# Altium schematic symbol library Transistor.SchLib: 72 symbols
Pins are listed as number, name and electrical type; pins without a type are passive.

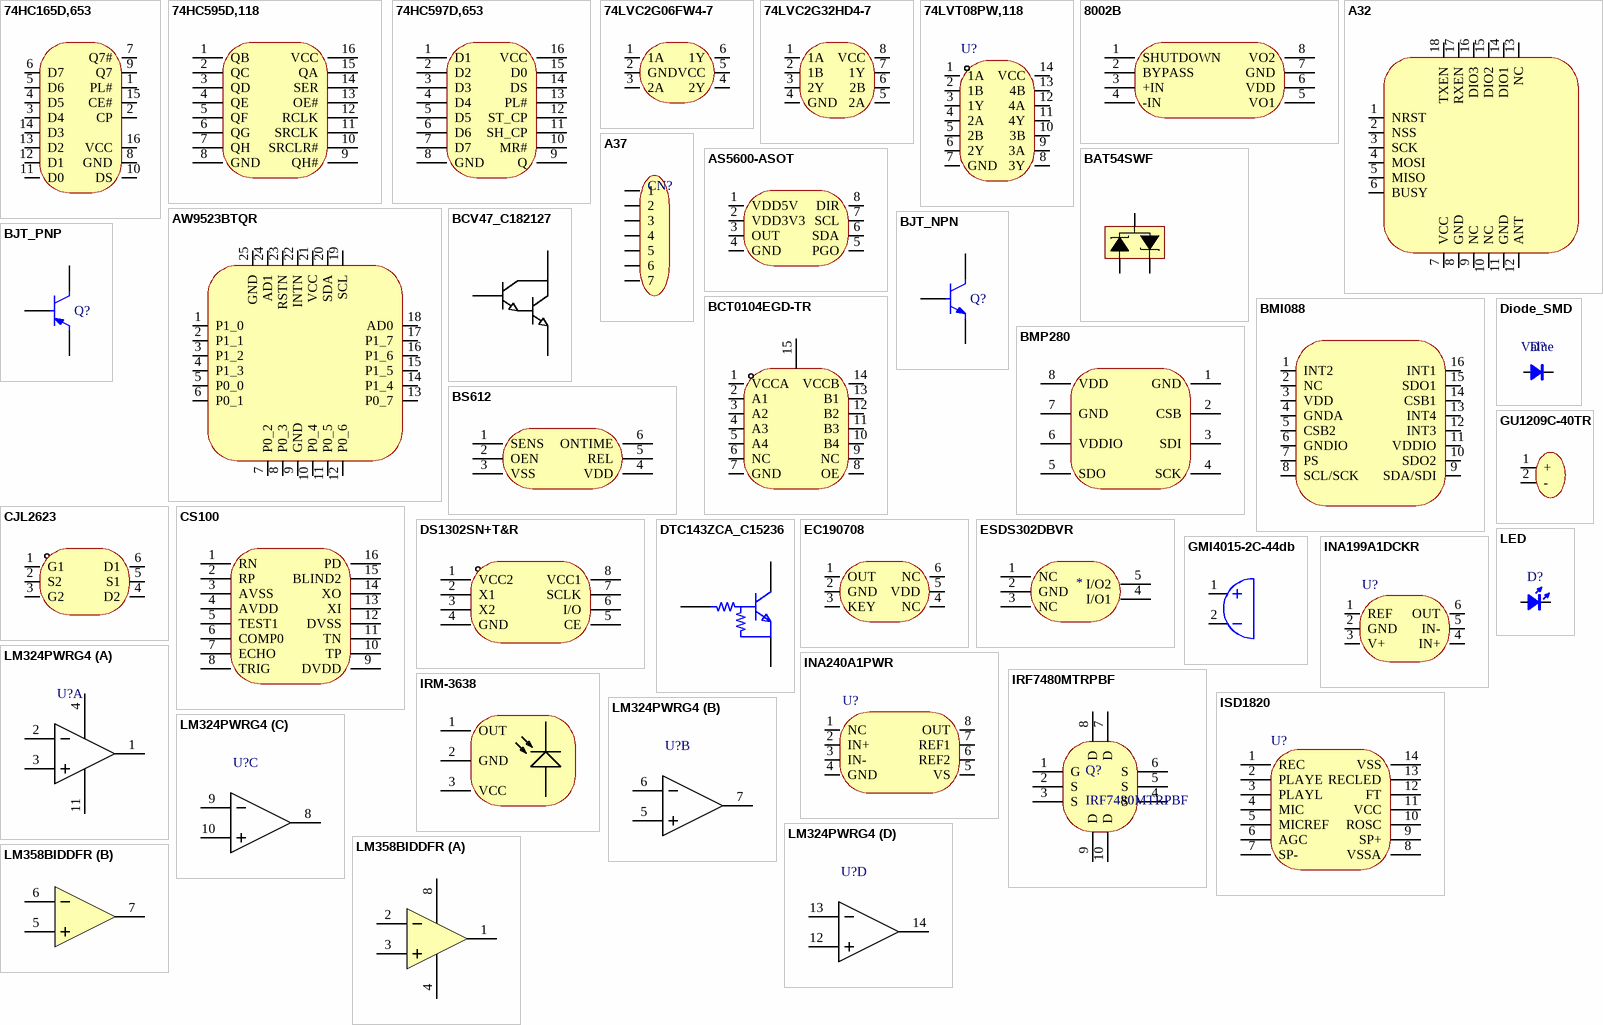
[diagram p0: symbols 74HC165D,653 to LM358BIDDFR]

## 74HC165D,653
designator U??  (value not drawn)
Manufacturer: Nexperia(安世); Add into BOM: yes; Function: 并行或串行至串行; Supply Voltage: 2V~6V; Number of Elements: 1; Number of Bits per Element: 8; Output Type: 补充型; Name: 74HC165D,653; Symbol: 74HC165D,653; Device: 74HC165D,653; LCSC Part Name: 补充型输出 并行或串行至串行移位寄存器; Supplier Part: C5613; Manufacturer Part: 74HC165D,653; Supplier Footprint: SOIC-16; JLCPCB Part Class: Extended Part; Datasheet: https://atta.szlcsc.com/upload/public/pdf/source/20160218/1457707760975.pdf; Supplier: LCSC; Convert to PCB: yes; Series: 74HC; Operating Temperature: -40℃~+125℃
footprint SOIC-16_L9.9-W3.9-P1.27-LS6.0-BL
pins: 1 PL#, 2 CP, 3 D4, 4 D5, 5 D6, 6 D7, 7 Q7#, 8 GND, 9 Q7, 10 DS, 11 D0, 12 D1, 13 D2, 14 D3, 15 CE#, 16 VCC

## 74HC595D,118
designator U??  (value not drawn)
Manufacturer: Nexperia(安世); Add into BOM: yes; Function: 串行至串行或并行; Supply Voltage: 2V~6V; Number of Elements: 1; Number of Bits per Element: 8; Output Type: 三态; Symbol: 74HC595D,118; Device: 74HC595D,118; LCSC Part Name: 三态输出 串行至串行或并行移位寄存器; Supplier Part: C5947; Manufacturer Part: 74HC595D,118; Supplier Footprint: SOIC-16; JLCPCB Part Class: Basic Part; Datasheet: https://atta.szlcsc.com/upload/public/pdf/source/20140108/1457706668762.pdf; Supplier: LCSC; Convert to PCB: yes; Series: 74HC; Operating Temperature: -40℃~+125℃
footprint SOIC-16_L9.9-W3.9-P1.27-LS6.0-BL
pins: 1 QB, 2 QC, 3 QD, 4 QE, 5 QF, 6 QG, 7 QH, 8 GND, 9 QH#, 10 SRCLR#, 11 SRCLK, 12 RCLK, 13 OE#, 14 SER, 15 QA, 16 VCC

## 74HC597D,653
designator U??  (value not drawn)
Manufacturer: Nexperia(安世); Add into BOM: yes; Function: 并行至串行; Supply Voltage: 2V~6V; Number of Elements: 1; Number of Bits per Element: 8; Output Type: 推挽式; Name: 74HC597D,653; Symbol: 74HC597D,653; Device: 74HC597D,653; LCSC Part Name: 推挽式输出 并行至串行移位寄存器; Supplier Part: C5950; Manufacturer Part: 74HC597D,653; Supplier Footprint: SOIC-16; JLCPCB Part Class: Extended Part; Datasheet: https://atta.szlcsc.com/upload/public/pdf/source/20120418/1457706475009.pdf; Supplier: LCSC; Convert to PCB: yes; Series: 74HC; Operating Temperature: -40℃~+125℃
footprint SOIC-16_L9.9-W3.9-P1.27-LS6.0-BL
pins: 1 D1, 2 D2, 3 D3, 4 D4, 5 D5, 6 D6, 7 D7, 8 GND, 9 Q, 10 MR#, 11 SH_CP, 12 ST_CP, 13 PL#, 14 DS, 15 D0, 16 VCC

## 74LVC2G06FW4-7
designator U??  (value not drawn)
双通道反相器; Manufacturer: DIODES(美台); Add into BOM: yes; Name: 74LVC2G06FW4-7; Symbol: 74LVC2G06FW4-7; Device: 74LVC2G06FW4-7; LCSC Part Name: 74LVC2G06FW4-7; Supplier Part: C526349; Manufacturer Part: 74LVC2G06FW4-7; Supplier Footprint: X2-DFN1010-6; JLCPCB Part Class: Extended Part; Datasheet: https://atta.szlcsc.com/upload/public/pdf/source/20200527/C526349_D718246197266BA0279DC21C28681CCE.pdf; Supplier: LCSC; Convert to PCB: yes
footprint X2-DFN1010-6_L1.0-W1.0-P0.35-BL
pins: 1 1A, 2 GND, 3 2A, 4 2Y, 5 VCC, 6 1Y

## 74LVC2G32HD4-7
designator ?  (value not drawn)
Designer: U?; Symbol: 74LVC2G32HD4-7; Device: 74LVC2G32HD4-7
footprint DFN-8_L2.0-W1.0-P0.50-BL
pins: 1 1A, 2 1B, 3 2Y, 4 GND, 5 2A, 6 2B, 7 1Y, 8 VCC

## 74LVT08PW,118
designator U?  (value not drawn)
逻辑电路的归属系列:74LVT;逻辑类型:与门;通道数:4;电源电压:2.7V~3.6V;灌电流(IOL):32mA;拉电流(IOH):20mA;最大传播延迟:3.4ns@3.3V,50pF;; Manufacturer: Nexperia(安世); Add into BOM: yes; Logic Gate Type: 与门; Number of Channels: 4; Sink Current: 32mA; Source Current: 20mA; High Level Range (VIH): 2V; Low Level Range (VIL): 0.8V; Name: 74LVT08PW,118; Symbol: 74LVT08PW,118; Device: 74LVT08PW,118; LCSC Part Name: 与门; Supplier Part: C548961; Manufacturer Part: 74LVT08PW,118; Supplier Footprint: TSSOP-14; JLCPCB Part Class: 扩展库; Datasheet: https://atta.szlcsc.com/upload/public/pdf/source/20200702/C548956_69376B719597F026608E69579AC07FDD.pdf; Supplier: LCSC; Convert to PCB: yes; Series: 74LVT; Supply Voltage: 2.7V~3.6V; Propagation Delay Time: 3.4ns@3.3V,50pF; Operating Temperature: -40℃~+85℃
footprint TSSOP-14_L5.0-W4.4-P0.65-LS6.4-BL
pins: 1 1A, 2 1B, 3 1Y, 4 2A, 5 2B, 6 2Y, 7 GND, 8 3Y, 9 3A, 10 3B, 11 4Y, 12 4A, 13 4B, 14 VCC

## 8002B
designator U??  (value not drawn)
Manufacturer: IDCHIP(英锐芯); Add into BOM: yes; Speaker Channels: 单声道; Supply Voltage: 2.2V~6.5V; Symbol: 8002B; Device: 8002B; LCSC Part Name: 8002B; Supplier Part: C329449; Manufacturer Part: 8002B; Supplier Footprint: SOP-8; JLCPCB Part Class: Extended Part; Datasheet: https://atta.szlcsc.com/upload/public/pdf/source/20181204/C329449_1D5C53D1DCD8BF215477F4C02E0F19C9.pdf; Supplier: LCSC; Convert to PCB: yes; Type of Power Amplifier: -; Output Power: -; Quiescent Current (Iq): -; Operating Temperature: -
footprint SOIC-8_L4.9-W3.9-P1.27-LS6.0-BL
pins: 1 SHUTDOWN, 2 BYPASS, 3 +IN, 4 -IN, 5 VO1, 6 VDD, 7 GND, 8 VO2

## A32
designator U??  (value not drawn)
泽耀科技SPI无线模块; Manufacturer: AWINIC(艾为); Name: AW9523BTQR; Add into BOM: yes; Interface: I²C; Number of I/O: 16; Interrupt Output: 有中断输出; Output Source current: 20mA; Clock Frequency: 400kHz; Supply Voltage: 2.4V~5.5V; Symbol: AW9523BTQR; Device: AW9523BTQR; LCSC Part Name: 呼吸灯驱动Breathing LED Driver; Supplier Part: C148077; Manufacturer Part: AW9523BTQR; Supplier Footprint: TQFN-24-EP(4x4); JLCPCB Part Class: Extended Part; Datasheet: https://atta.szlcsc.com/upload/public/pdf/source/20180202/C148077_15175644676151336003.pdf; Supplier: LCSC; Convert to PCB: yes; Output Type: -; Output Sink Current: 20mA; Operating Temperature: -40℃~+85℃
footprint S35-PAD-1
pins: 1 NRST, 2 NSS, 3 SCK, 4 MOSI, 5 MISO, 6 BUSY, 7 VCC, 8 GND, 9 NC, 10 NC, 11 GND, 12 ANT, 13 NC, 14 DIO1, 15 DIO2, 16 DIO3, 17 RXEN, 18 TXEN

## A37
designator CN?, comment WIFI模块  (value not drawn)
Manufacturer: CJT(长江连接器); Name: A2005HWV-4P; Add into BOM: yes; Number of Holes: 4; Pitch: 2mm; Holes Structure: 1x4P; Symbol: A2005HWV-4P; Device: A2005HWV-4P; LCSC Part Name: 2mm 1x4P 镀金; Supplier Part: C225282; Manufacturer Part: A2005HWV-4P; Supplier Footprint: 插件,P=2mm; JLCPCB Part Class: 扩展库; Datasheet: https://atta.szlcsc.com/upload/public/pdf/source/20180509/C225282_EA1BF45A07650844C9F1414BB7364766.pdf; Supplier: LCSC; Convert to PCB: yes; Number of Rows: 单排; Row Spacing: -; Mounting Type: 直插; Insulation Height: -; Contact Material: 磷青铜; Contact Plating: -
footprint A37-H2
pins: 1, 2, 3, 4, 5, 6, 7

## AS5600-ASOT
designator U??  (value not drawn)
Manufacturer: ams(艾迈斯半导体); Add into BOM: yes; Name: AS5600-ASOT; Symbol: AS5600-ASOT; Device: AS5600-ASOT; LCSC Part Name: AS5600-ASOT; Supplier Part: C499458; Manufacturer Part: AS5600-ASOT; Supplier Footprint: SOIC-8; JLCPCB Part Class: Extended Part; Datasheet: https://atta.szlcsc.com/upload/public/pdf/source/20200324/C499458_E1461AFB0CE1042DE5756821C534625C.pdf; Supplier: LCSC; Convert to PCB: yes
footprint SOIC-8_L4.9-W3.9-P1.27-LS6.0-BL
pins: 1 VDD5V, 2 VDD3V3, 3 OUT, 4 GND, 5 PGO, 6 SDA, 7 SCL, 8 DIR

## AW9523BTQR
designator U??  (value not drawn)
IIC总线的IO拓展芯片; Manufacturer: AWINIC(艾为); Add into BOM: yes; Interface: I²C; Number of I/O: 16; Interrupt Output: 有中断输出; Output Source current: 20mA; Clock Frequency: 400kHz; Supply Voltage: 2.4V~5.5V; Name: AW9523BTQR; Symbol: AW9523BTQR; Device: AW9523BTQR; LCSC Part Name: 呼吸灯驱动Breathing LED Driver; Supplier Part: C148077; Manufacturer Part: AW9523BTQR; Supplier Footprint: TQFN-24-EP(4x4); JLCPCB Part Class: Extended Part; Datasheet: https://atta.szlcsc.com/upload/public/pdf/source/20180202/C148077_15175644676151336003.pdf; Supplier: LCSC; Convert to PCB: yes; Output Type: -; Output Sink Current: 20mA; Operating Temperature: -40℃~+85℃
footprint QFN_24
pins: 1 P1_0, 2 P1_1, 3 P1_2, 4 P1_3, 5 P0_0, 6 P0_1, 7 P0_2, 8 P0_3, 9 GND, 10 P0_4, 11 P0_5, 12 P0_6, 13 P0_7, 14 P1_4, 15 P1_5, 16 P1_6, 17 P1_7, 18 AD0, 19 SCL, 20 SDA, 21 VCC, 22 INTN, 23 RSTN, 24 AD1, 25 GND

## BAT54SWF
designator D??
Symbol: BAT54SWF
footprint SOT23_3 (SOT23, 3-Leads, Body 3.1x3.0mm (max), Pitch 0.95mm, IPC Medium Density)
pins: 1 A, 2 K, 3

## BCT0104EGD-TR
designator U??  (value not drawn)
Manufacturer: BROADCHIP(广芯电子); Add into BOM: yes; Name: BCT0104EGD-TR; Symbol: BCT0104EGD-TR; Device: BCT0104EGD-TR; LCSC Part Name: BCT0104EGD-TR; Supplier Part: C2880273; Manufacturer Part: BCT0104EGD-TR; Supplier Footprint: QFN-14-EP(3.5x3.5); JLCPCB Part Class: Extended Part; Datasheet: https://atta.szlcsc.com/upload/public/pdf/source/20210825/A214B8F32C8CF87452F3EA05835C2A3D.pdf; Supplier: LCSC; Convert to PCB: yes
footprint QFN-14_L3.5-W3.5-P0.50-TL-EP
pins: 1 VCCA, 2 A1, 3 A2, 4 A3, 5 A4, 6 NC, 7 GND, 8 OE, 9 NC, 10 B4, 11 B3, 12 B2, 13 B1, 14 VCCB, 15 GND

## BCV47_C182127
designator Q??  (value not drawn)
Manufacturer: CJ(江苏长电/长晶); Name: BCV47; Add into BOM: yes; Symbol: BCV47; Device: BCV47_C182127; LCSC Part Name: BCV47; Supplier Part: C182127; Manufacturer Part: BCV47; Supplier Footprint: SOT-23; JLCPCB Part Class: Extended Part; Datasheet: https://atta.szlcsc.com/upload/public/pdf/source/20210427/C182127_A61D34FEA370D0C3B12A4F60BF400E31.pdf; Supplier: LCSC; Convert to PCB: yes
footprint SOT23_3 (SOT23, 3-Leads, Body 3.1x3.0mm (max), Pitch 0.95mm, IPC Medium Density)
pins: 1 B, 2 E, 3 C

## BJT_NPN
designator Q?, comment Value  (value not drawn)
Triode_NPN_SMD
footprint SOT23_3 (SOT23, 3-Leads, Body 3.1x3.0mm (max), Pitch 0.95mm, IPC Medium Density)
pins: 1, 2, 3

## BJT_PNP
designator Q?, comment Value  (value not drawn)
Triode_PNP_SMD
footprint SOT23_3 (SOT23, 3-Leads, Body 3.1x3.0mm (max), Pitch 0.95mm, IPC Medium Density)
pins: 1, 2, 3

## BMI088
designator U??  (value not drawn)
Manufacturer: Bosch(博世); Add into BOM: yes; Name: BMI088; Symbol: BMI088; Device: BMI088; LCSC Part Name: BMI088; Supplier Part: C194919; Manufacturer Part: BMI088; Supplier Footprint: LGA-16; JLCPCB Part Class: Extended Part; Datasheet: https://atta.szlcsc.com/upload/public/pdf/source/20180628/C194919_66CCF125FF968C218A4D358C68AC68D6.pdf; Supplier: LCSC; Convert to PCB: yes
footprint LGA-16_L4.5-W3.0-P0.50-BL
pins: 1 INT2, 2 NC, 3 VDD, 4 GNDA, 5 CSB2, 6 GNDIO, 7 PS, 8 SCL/SCK, 9 SDA/SDI, 10 SDO2, 11 VDDIO, 12 INT3, 13 INT4, 14 CSB1, 15 SDO1, 16 INT1

## BMP280
designator ?  (value not drawn)
Designer: U?; Symbol: BMP280; Device: BMP280
footprint WLGA-8_L2.5-W2.0-P0.65-TR_DPS422
pins: 1 GND, 2 CSB, 3 SDI, 4 SCK, 5 SDO, 6 VDDIO, 7 GND, 8 VDD

## BS612
designator U??  (value not drawn)
Manufacturer: 森霸; Add into BOM: yes; Symbol: BS612; Device: BS612; LCSC Part Name: 数字智能热释电红外传感器; Supplier Part: C389589; Manufacturer Part: BS612; Supplier Footprint: 插件; JLCPCB Part Class: Extended Part; Datasheet: https://atta.szlcsc.com/upload/public/pdf/source/20200910/C389589_CF4A2CE7DA148383F1DD8E46C6F8BB27.pdf; Supplier: LCSC; Convert to PCB: yes
footprint SENSORM-TH_BS612
pins: 1 SENS, 2 OEN, 3 VSS, 4 VDD, 5 REL, 6 ONTIME

## CJL2623
designator Q??  (value not drawn)
Manufacturer: CJ(江苏长电/长晶); Add into BOM: yes; Type: P沟道; Drain Source Voltage (Vdss): -30V; Continuous Drain Current (Id): -3A; Power Dissipation (Pd): 350mW; Drain Source On Resistance (RDS(on)@Vgs,Id): 130mΩ@10V,3A; Gate Threshold Voltage (Vgs(th)@Id): 20V; Total Gate Charge (Qg@Vgs): 4.5nC; Input Capacitance (Ciss@Vds): 240pF; Reverse Transfer Capacitance (Crss@Vds): 32pF; Name: CJL2623; Symbol: CJL2623; Device: CJL2623; LCSC Part Name: P沟道 耐压:-30V 电流:-3A; Supplier Part: C139831; Manufacturer Part: CJL2623; Supplier Footprint: SOT-23-6; JLCPCB Part Class: Extended Part; Datasheet: https://atta.szlcsc.com/upload/public/pdf/source/20171129/C139831_15119539744621151327.pdf; Supplier: LCSC; Convert to PCB: yes
footprint SOT-23-6_L2.9-W1.6-P0.95-LS2.8-BR
pins: 1 G1, 2 S2, 3 G2, 4 D2, 5 S1, 6 D1

## CS100
designator U??, comment 74HC597D,653  (value not drawn)
超声波收发芯片; Manufacturer: Nexperia(安世); Add into BOM: yes; Function: 并行至串行; Supply Voltage: 2V~6V; Number of Elements: 1; Number of Bits per Element: 8; Output Type: 推挽式; Name: 74HC597D,653; Symbol: 74HC597D,653; Device: 74HC597D,653; LCSC Part Name: 推挽式输出 并行至串行移位寄存器; Supplier Part: C5950; Manufacturer Part: 74HC597D,653; Supplier Footprint: SOIC-16; JLCPCB Part Class: Extended Part; Datasheet: https://atta.szlcsc.com/upload/public/pdf/source/20120418/1457706475009.pdf; Supplier: LCSC; Convert to PCB: yes; Series: 74HC; Operating Temperature: -40℃~+125℃
footprint SOIC-16_L9.9-W3.9-P1.27-LS6.0-BL
pins: 1 RN, 2 RP, 3 AVSS, 4 AVDD, 5 TEST1, 6 COMP0, 7 ECHO, 8 TRIG, 9 DVDD, 10 TP, 11 TN, 12 DVSS, 13 XI, 14 XO, 15 BLIND2, 16 PD

## Diode_SMD
designator D?, comment Value
Diode_SMD; Value: color?
footprint SOD_323
footprint SMA
footprint SMBJ-CA_MFG (无极性SMB)
footprint SMC_L7.1-W6.2-LS8.1-R-RD
footprint SOD-523_L1.2-W0.8-LS1.6-RD
footprint SOD-123_L2.8-W1.8-LS3.7-RD
pins: 1 K, 2 A

## DS1302SN+T&R
designator U??  (value not drawn)
Manufacturer: ADI(亚德诺)/MAXIM(美信); Symbol: DS1302SN+T&amp;R; Add into BOM: yes; Interface: SPI; Operating Voltage: 2V~5.5V; Device: DS1302SN+T&R; LCSC Part Name: DS1302SN+T&R; Supplier Part: C41719; Manufacturer Part: DS1302SN+T&R; Supplier Footprint: SOIC-8-208mil; JLCPCB Part Class: Extended Part; Datasheet: https://atta.szlcsc.com/upload/public/pdf/source/20150124/1457707262544.pdf; Supplier: LCSC; Convert to PCB: yes; Operating Temperature: -40℃~+85℃
footprint SOIC-8_L4.9-W3.9-P1.27-LS6.0-BL
pins: 1 VCC2, 2 X1, 3 X2, 4 GND, 5 CE, 6 I/O, 7 SCLK, 8 VCC1

## DTC143ZCA_C15236
designator Q??  (value not drawn)
预偏置数字三极管; Manufacturer: CJ(江苏长电/长晶); Add into BOM: yes; Transistor Type: 1个NPN-预偏置; Power Dissipation (Pd): 200mW; Collector Current (Ic): 100mA; Collector-Emitter Breakdown Voltage (Vceo): 50V; Name: DTC143ZCA; Symbol: DTC143ZCA; Device: DTC143ZCA_C15236; LCSC Part Name: 1个NPN-预偏置 100mA 50V; Supplier Part: C15236; Manufacturer Part: DTC143ZCA; Supplier Footprint: SOT-23; JLCPCB Part Class: Extended Part; Datasheet: https://atta.szlcsc.com/upload/public/pdf/source/20140809/1457707205046.pdf; Supplier: LCSC; Convert to PCB: yes
footprint SOT23_3 (SOT23, 3-Leads, Body 3.1x3.0mm (max), Pitch 0.95mm, IPC Medium Density)
pins: 1 IN, 2 GND, 3 OUT

## EC190708
designator U??, comment RS2103XH  (value not drawn)
开关机IC; Manufacturer: RUNIC(润石); Add into BOM: yes; Name: RS2103XH; Symbol: RS2103XH; Device: RS2103XH; LCSC Part Name: 模拟开关RS2103XH; Supplier Part: C255472; Manufacturer Part: RS2103XH; Supplier Footprint: SOT-23-6; JLCPCB Part Class: Extended Part; Datasheet: https://atta.szlcsc.com/upload/public/pdf/source/20180801/C255472_556446098C084FD7A8E66BCC67A523BD.pdf; Supplier: LCSC; Convert to PCB: yes; Switch Circuit: -; Multiplexer/Demultiplexer Circuit: -; Number of Circuits: -; On Resistance (Max): -; Switch Voltage (Max): -; On Time (Max): -; Off Time (Max): -; Supply Voltage: -; Operating Temperature: -
footprint SOT-23-6_L2.9-W1.6-P0.95-LS2.8-BR
pins: 1 OUT, 2 GND, 3 KEY, 4 NC, 5 VDD, 6 NC

## ESDS302DBVR
designator D??
Symbol: ESDS302DBVR
footprint SOT23_5
pins: 1 NC, 2 GND, 3 NC, 4 I/O1, 5 I/O2

## GMI4015-2C-44db
designator MIC??  (value not drawn)
Manufacturer: INGHAi(赢海); Add into BOM: yes; Name: GMI4015-2C-44db; Symbol: GMI4015-2C-44DB; Device: GMI4015-2C-44db; LCSC Part Name: 全指向双电容φ4.0*1.5mm 1.5V-10V 灵敏度-44dB 低阻抗; Supplier Part: C233274; Manufacturer Part: GMI4015-2C-44db; Supplier Footprint: -; JLCPCB Part Class: Extended Part; Datasheet: https://atta.szlcsc.com/upload/public/pdf/source/20180613/C233285_B82B48E7113DD15BB0DB65002027213C.pdf; Supplier: LCSC; Convert to PCB: yes; link: https://atta.szlcsc.com/upload/public/pdf/source/20180613/C233285_B82B48E7113DD15BB0DB65002027213C.pdf
footprint MIC-SMD_BD4.0_GMI4015-2C-32DB
pins: 1 +, 2 -

## GU1209C-40TR
designator U??  (value not drawn)
Manufacturer: INGHAi(赢海); Add into BOM: yes; Center Frequency: 40kHz; Functional Type: 收发一体; Sensitivity: -75dB; Symbol: GU1209C-40TR; Device: GU1209C-40TR; LCSC Part Name: 收发一体 一体式无人机探头; Supplier Part: C242180; Manufacturer Part: GU1209C-40TR; Supplier Footprint: 插件,D=12.6mm; JLCPCB Part Class: Extended Part; Datasheet: https://atta.szlcsc.com/upload/public/pdf/source/20190802/C242180_8FFBEB97C2E87A5F9998462F2C577728.pdf; Supplier: LCSC; Convert to PCB: yes; Type: 开放式; Operating Temperature: -30℃~+80℃
footprint SENSOR-TH_GU12XXC-40XX
pins: 1 +, 2 -

## INA199A1DCKR
designator U?  (value not drawn)
INA199 26V、双向、零漂移、低侧/高侧、电压输出分流监控器; Manufacturer: TI(德州仪器); Add into BOM: yes; Name: INA199A1DCKR; Symbol: INA199A1DCKR; Device: INA199A1DCKR; LCSC Part Name: INA199A1DCKR; Supplier Part: C59135; Manufacturer Part: INA199A1DCKR; Supplier Footprint: SC-70-6(SOT-363); JLCPCB Part Class: 扩展库; Datasheet: https://atta.szlcsc.com/upload/public/pdf/source/20150921/1457707392422.pdf; Supplier: LCSC; Convert to PCB: yes
footprint SC-70-6_L2.2-W1.3-P0.65-LS2.1-BR
pins: 1 REF, 2 GND, 3 V+, 4 IN+, 5 IN-, 6 OUT

## INA240A1PWR
designator U?  (value not drawn)
INA240 电压输出、高/低侧测量、双向零漂移系列; Manufacturer: TI(德州仪器); Add into BOM: yes; Name: INA240A1PWR; Symbol: INA240A1PWR; Device: INA240A1PWR; LCSC Part Name: INA240A1PWR; Supplier Part: C93965; Manufacturer Part: INA240A1PWR; Supplier Footprint: TSSOP-8_3x4.4x065P; JLCPCB Part Class: 扩展库; Datasheet: https://atta.szlcsc.com/upload/public/pdf/source/20180125/C93965_15168617716381301969.pdf; Supplier: LCSC; Convert to PCB: yes
footprint TSSOP-8_L4.4-W3.0-P0.65-LS6.4-BL
pins: 1 NC, 2 IN+, 3 IN-, 4 GND, 5 VS, 6 REF2, 7 REF1, 8 OUT

## IRF7480MTRPBF
designator Q?
IRF7480MTRPBF, DirectFET, 40V, 217A
pins: 1 G, 2 S, 3 S, 4 S, 5 S, 6 S, 7 D, 8 D, 9 D, 10 D

## IRM-3638
designator LED??  (value not drawn)
Manufacturer: EVERLIGHT(亿光); Add into BOM: yes; Symbol: IRM-3638; Device: IRM-3638; LCSC Part Name: 红外线接收头直插; Supplier Part: C131209; Manufacturer Part: IRM-3638; Supplier Footprint: SIP-3-2.54mm; JLCPCB Part Class: Extended Part; Datasheet: https://atta.szlcsc.com/upload/public/pdf/source/20170918/C131209_1505726868100976221.pdf; Supplier: LCSC; Convert to PCB: yes
footprint OPTO-TH_IRM-3638T
pins: 1 OUT, 2 GND, 3 VCC

## ISD1820
designator U?  (value not drawn)
Add into BOM: yes; Symbol: ISD1820; Device: ISD1820; Convert to PCB: yes
footprint DIP-14_L19.9-W6.9-P2.54-LS7.6-BL
pins: 1 REC, 2 PLAYE, 3 PLAYL, 4 MIC, 5 MICREF, 6 AGC, 7 SP-, 8 VSSA, 9 SP+, 10 ROSC, 11 VCC, 12 FT, 13 RECLED, 14 VSS

## LED
designator D?, comment color?  (value not drawn)
LED; Value: color?
footprint LED_0402
footprint LED_0805
footprint LED-TH_MHK1375CGBTD
footprint LED_0201
footprint LED-TH_BD3.8-P2.54-FD
footprint LED_0603
pins: 1 A, 2 K

## LM324PWRG4
designator U?  (value not drawn)
Quad, 30-V, 1.2-MHz operational amplifier 14-TSSOP 0 to 70; Manufacturer: TI(德州仪器); Add into BOM: yes; Name: LM324PWRG4; Symbol: LM324PWRG4; Device: LM324PWRG4; LCSC Part Name: LM324PWRG4; Supplier Part: C2057667; Manufacturer Part: LM324PWRG4; Supplier Footprint: TSSOP-14; JLCPCB Part Class: 扩展库; Datasheet: https://atta.szlcsc.com/upload/public/pdf/source/20230221/9A32AD3F0BA3945A44973B2419FC2FAF.pdf; Supplier: LCSC; Convert to PCB: yes
footprint TSSOP-14_L5.0-W4.4-P0.65-LS6.4-BL
part A pins: 1 1OUT, 2 1IN-, 3 1IN+, 4 VCC, 11 GND
part B pins: 5 2IN+, 6 2IN-, 7 2OUT
part C pins: 8 3OUT, 9 3IN-, 10 3IN+
part D pins: 12 4IN+, 13 4IN-, 14 4OUT

## LM358BIDDFR
designator U??  (value not drawn)
Manufacturer: TI(德州仪器); Add into BOM: yes; Number of Channels: 双路; Maximum Power Supply Range (Vdd-Vss): 36V; Gain Bandwidth Product: 1.2MHz; Vos - Input Offset Voltage: 3mV; Input Offset Voltage Drift(Vos TC): 3.5uV/℃; Slew Rate: 500V/ms; Ib - Input Bias Current: 35nA; Input Offset Current(Ios): 4nA; Noise density(eN): 40nV/√Hz@1kHz; Common Mode Rejection Ratio(CMRR): 100dB; Input offset current drift(Ios TC): 10pA/℃; Quiescent Current: 300uA; Output Current: 20mA; Single supply: 3V~36V; Symbol: LM358BIDDFR; Device: LM358BIDDFR; LCSC Part Name: 行业标准双路运算放大器; Supplier Part: C4366960; Manufacturer Part: LM358BIDDFR; Supplier Footprint: TSOT-23-8; JLCPCB Part Class: Extended Part; Datasheet: https://www.ti.com/cn/lit/gpn/lm358; Supplier: LCSC; Convert to PCB: yes; Rail to Rail: -; Operating Temperature: -40℃~+85℃
footprint TSOT-23-8_L2.9-W1.6-P0.65-LS2.8-BL
part A pins: 1 OUT1, 2 IN1-, 3 IN1+, 4 V-, 8 V+
part B pins: 5 IN2+, 6 IN2-, 7 OUT2

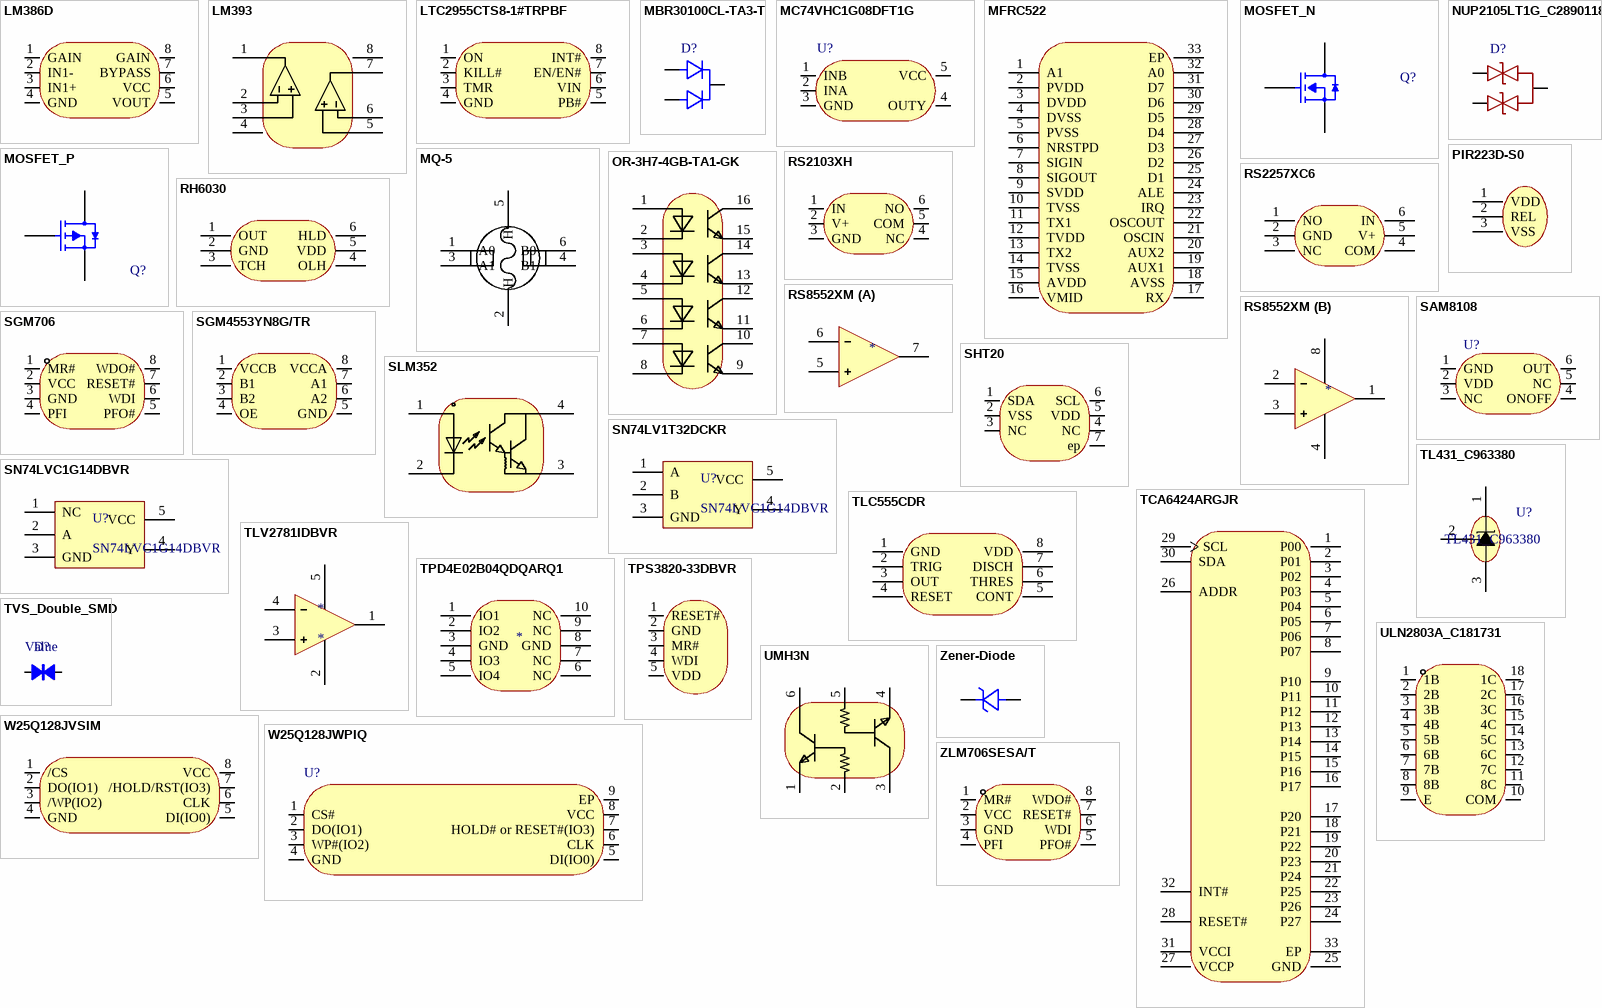
[diagram p1: symbols LM386D to ZLM706SESA/T]

## LM386D
designator U??  (value not drawn)
Manufacturer: HTC; Add into BOM: yes; Symbol: LM386D; Device: LM386D; LCSC Part Name: LM386D; Supplier Part: C510560; Manufacturer Part: LM386D; Supplier Footprint: SOP-8; JLCPCB Part Class: Extended Part; Datasheet: https://atta.szlcsc.com/upload/public/pdf/source/20200407/C510560_97C79EC4E228A84BA05A89C5257ECB24.pdf; Supplier: LCSC; Convert to PCB: yes; Type of Power Amplifier: -; Output Power: -
footprint SOIC-8_L4.9-W3.9-P1.27-LS6.0-BL
pins: 1 GAIN, 2 IN1-, 3 IN1+, 4 GND, 5 VOUT, 6 VCC, 7 BYPASS, 8 GAIN

## LM393
designator U??  (value not drawn)
Manufacturer: PUOLOP(迪浦); Device: LM393_C351428; Add into BOM: yes; Symbol: LM393; LCSC Part Name: LM393; Supplier Part: C351428; Manufacturer Part: LM393; Supplier Footprint: SOP-8; JLCPCB Part Class: Extended Part; Datasheet: https://atta.szlcsc.com/upload/public/pdf/source/20190109/C351428_C9388ABEF7C9373CB016405803602C58.pdf; Supplier: LCSC; Convert to PCB: yes
footprint SOIC-8_L4.9-W3.9-P1.27-LS6.0-BL
pins: 1, 2, 3, 4 GND, 5, 6, 7, 8 VDD

## LTC2955CTS8-1#TRPBF
designator U??  (value not drawn)
Manufacturer: ADI(亚德诺)/LINEAR(凌特); Add into BOM: yes; Name: LTC2955CTS8-1#TRPBF; Symbol: LTC2955CTS8-1#TRPBF; Device: LTC2955CTS8-1#TRPBF; LCSC Part Name: LTC2955CTS8-1#TRPBF; Supplier Part: C683790; Manufacturer Part: LTC2955CTS8-1#TRPBF; Supplier Footprint: TSOT-23-8; JLCPCB Part Class: Extended Part; Datasheet: https://atta.szlcsc.com/upload/public/pdf/source/20200109/C473668_F0DBBCA7DD63F66863B12BBCB25B3B1A.pdf; Supplier: LCSC; Convert to PCB: yes
footprint TSOT-23-8_L2.9-W1.6-P0.65-LS2.8-BL
pins: 1 ON, 2 KILL#, 3 TMR, 4 GND, 5 PB#, 6 VIN, 7 EN/EN#, 8 INT#

## MBR30100CL-TA3-T
designator D?  (value not drawn)
直流反向耐压(Vr):100V;平均整流电流(Io):15A;正向压降(Vf):850mV@15A;; Manufacturer: UTC(友顺); Add into BOM: yes; Reverse Voltage (Vr): 100V; Average Rectified Current (Io): 15A; Name: MBR30100CL-TA3-T; Symbol: MBR30100CL-TA3-T; Device: MBR30100CL-TA3-T; LCSC Part Name: 100V 15A 850mV@15A; Supplier Part: C171488; Manufacturer Part: MBR30100CL-TA3-T; Supplier Footprint: TO-220; JLCPCB Part Class: 扩展库; Datasheet: https://atta.szlcsc.com/upload/public/pdf/source/20180111/C171488_15156386818121255592.pdf; Supplier: LCSC; Convert to PCB: yes; Forward Voltage (Vf@If): 850mV@15A
footprint SOT23_3 (SOT23, 3-Leads, Body 3.1x3.0mm (max), Pitch 0.95mm, IPC Medium Density)
pins: 1 A1, 2 A2, 3 C

## MC74VHC1G08DFT1G
designator U?  (value not drawn)
逻辑电路的归属系列:74VHC;逻辑类型:与门;通道数:1;每通道输入数:2;电源电压:2V~5.5V;静态电流(最大值):1uA;; Manufacturer: onsemi(安森美); Add into BOM: yes; Logic Type: 与门; number of channels: 1; Number of inputs per channel: 2; Quiescent Current (Max): 1uA; Max Propagation Delay @ V, Max CL: 7.9ns@5V,50pF; Low Level Output Current: 8mA; Logical Level - High: 1.5V~3.85V; Logical Level - low: 0.5V~1.65V; Name: MC74VHC1G08DFT1G; Symbol: MC74VHC1G08DFT1G; Device: MC74VHC1G08DFT1G; LCSC Part Name: 与门; Supplier Part: C233638; Manufacturer Part: MC74VHC1G08DFT1G; Supplier Footprint: SC-70-5; JLCPCB Part Class: 扩展库; Datasheet: https://atta.szlcsc.com/upload/public/pdf/source/20180629/C233638_37DC5551C42201C76E2B04EABF4AECC4.PDF; Supplier: LCSC; Convert to PCB: yes; Series: 74VHC; Supply Voltage(Single): 2V~5.5V; Hight Level Output Current: 8mA; Operating Temperature: -55℃~+125℃
footprint SC-70-5_L2.1-W1.3-P0.65-LS2.1-BL
pins: 1 INB, 2 INA, 3 GND, 4 OUTY, 5 VCC

## MFRC522
designator U??, comment 13.56MHz  (value not drawn)
Manufacturer: JSMSEMI(杰盛微); Symbol: MFRC522; Add into BOM: yes; agreement: ISO 14443A,ISO 14443B; interface type: I2C,SPI,UART; transmission rate: 9.6Kbps; mains input: 2.5V~4V; Device: MFRC522; LCSC Part Name: 13.56MHz非接触读卡器IC; Supplier Part: C2760772; Manufacturer Part: MFRC522; Supplier Footprint: QFN-32-EP(5x5); JLCPCB Part Class: Extended Part; Datasheet: https://atta.szlcsc.com/upload/public/pdf/source/20240328/DAD0AAAC32ED29173B34D9DCB65EF43F.pdf; Supplier: LCSC; Convert to PCB: yes; Value: 13.56MHz
footprint QFN-32_L5.0-W5.0-P0.50-TL-EP3.1
pins: 1 A1, 2 PVDD, 3 DVDD, 4 DVSS, 5 PVSS, 6 NRSTPD, 7 SIGIN, 8 SIGOUT, 9 SVDD, 10 TVSS, 11 TX1, 12 TVDD, 13 TX2, 14 TVSS, 15 AVDD, 16 VMID, 17 RX, 18 AVSS, 19 AUX1, 20 AUX2, 21 OSCIN, 22 OSCOUT, 23 IRQ, 24 ALE, 25 D1, 26 D2, 27 D3, 28 D4, 29 D5, 30 D6, 31 D7, 32 A0, 33 EP

## MOSFET_N
designator Q?, comment Value  (value not drawn)
N_MOS
footprint SOT23_3 (SOT23, 3-Leads, Body 3.1x3.0mm (max), Pitch 0.95mm, IPC Medium Density)
footprint TRS-SMD_IRF7480MTRPBF (IRF7480MTRPBF)
footprint DFN-8_L5.8-W4.9-P1.27-LS6.0-BL-1
footprint DFN-8_L3.0-W3.0-P0.65-BL
footprint DFN1006-3L_L1.0-W0.6-LS1.0-BR
footprint SO-8FL
footprint PG-HSOF-5_6.9-W6.7-P1.30-LS8.0-BL
pins: 1 G, 2 S, 3 D

## MOSFET_P
designator Q?, comment Value  (value not drawn)
P_MOS
footprint SOT23_3 (SOT23, 3-Leads, Body 3.1x3.0mm (max), Pitch 0.95mm, IPC Medium Density)
footprint DFN-8_L5.8-W4.9-P1.27-LS6.0-BL-1
footprint DFN-8_L3.0-W3.0-P0.65-BL
pins: 1 G, 2 S, 3 D

## MQ-5
designator U??  (value not drawn)
Manufacturer: Winsen(炜盛); Add into BOM: yes; Symbol: MQ-5; Device: MQ-5; LCSC Part Name: 可燃气体传感器; Supplier Part: C99297; Manufacturer Part: MQ-5; Supplier Footprint: 插件; JLCPCB Part Class: Extended Part; Datasheet: https://atta.szlcsc.com/upload/public/pdf/source/20170405/1491356131836.pdf; Supplier: LCSC; Convert to PCB: yes
footprint SENSOR-TH_MQ-5
pins: 1 A0, 2 H, 3 A1, 4 B1, 5 H, 6 B0

## NUP2105LT1G_C2890118
designator D?  (value not drawn)
Manufacturer: TECH PUBLIC(台舟); Add into BOM: yes; Name: NUP2105LT1G; Symbol: NUP2105LT1G_C2890118; Device: NUP2105LT1G_C2890118; LCSC Part Name: NUP2105LT1G; Supplier Part: C2890118; Manufacturer Part: NUP2105LT1G; Supplier Footprint: SOT-23; JLCPCB Part Class: 扩展库; Datasheet: https://atta.szlcsc.com/upload/public/pdf/source/20210903/C2631C2D315C3B4D2530AFC6AAB84809.pdf; Supplier: LCSC; Convert to PCB: yes
footprint SOT23_3 (SOT23, 3-Leads, Body 3.1x3.0mm (max), Pitch 0.95mm, IPC Medium Density)
pins: 1 C, 2 C, 3 A

## OR-3H7-4GB-TA1-GK
designator U??  (value not drawn)
Manufacturer: Orient(奥伦德); Add into BOM: yes; Input voltage type: DC; Output Type: 光电三极管; Number of Outputs: 4; Forward Voltage: 1.2V; Reverse Voltage: 6V; Output Current: 50mA; Receiving End Voltage: 80V; Collector-Emitter Saturation Voltage (Vce(sat)@Ic,IF): 100mV@1mA,20mA; Rise time: 4us@2mA,100Ω; Fall time: 3us@2mA,100Ω; Isolation Voltage(rms): 3.75kV; Name: OR-3H7-4GB-TA1-GK; Symbol: OR-3H7-4; Device: OR-3H7-4GB-TA1-GK; LCSC Part Name: DC输入 隔离电压(rms):3750V; Supplier Part: C2838427; Manufacturer Part: OR-3H7-4GB-TA1-GK; Supplier Footprint: SOP-16-4.4mm; JLCPCB Part Class: Extended Part; Datasheet: https://atta.szlcsc.com/upload/public/pdf/source/20210702/C2838427_B4772219885854B16549ABDC8F81A4C5.pdf; Supplier: LCSC; Convert to PCB: yes; Operating Temperature: -55℃~+110℃
footprint SOP-16_L10.3-W4.4-P1.27-LS7.0-BL
pins: 1, 2, 3, 4, 5, 6, 7, 8, 9, 10, 11, 12, 13, 14, 15, 16

## PIR223D-S0
designator U??  (value not drawn)
Manufacturer: NEWOPTO(鑫永诚光电); Add into BOM: yes; Symbol: PIR223D-S0; Device: PIR223D-S0; LCSC Part Name: 热释电红外传感器; Supplier Part: C2887901; Manufacturer Part: PIR223D-S0; Supplier Footprint: TO-5; JLCPCB Part Class: Extended Part; Datasheet: https://atta.szlcsc.com/upload/public/pdf/source/20210910/4C851221A53725EEF261FB52DC75F7A8.pdf; Supplier: LCSC; Convert to PCB: yes
footprint TO-5-3_L8.2-W8.2
pins: 1 VDD, 2 REL, 3 VSS

## RH6030
designator U??  (value not drawn)
Manufacturer: RONGHE(融和); Add into BOM: yes; Symbol: RH6030; Device: RH6030; LCSC Part Name: RH6030; Supplier Part: C78179; Manufacturer Part: RH6030; Supplier Footprint: SOT-23-6L; JLCPCB Part Class: Extended Part; Datasheet: https://atta.szlcsc.com/upload/public/pdf/source/20161119/1479540171480.pdf; Supplier: LCSC; Convert to PCB: yes
footprint SOT-23-6_L2.9-W1.6-P0.95-LS2.8-BR
pins: 1 OUT, 2 GND, 3 TCH, 4 OLH, 5 VDD, 6 HLD

## RS2103XH
designator U??  (value not drawn)
模拟开关; Manufacturer: RUNIC(润石); Add into BOM: yes; Name: RS2103XH; Symbol: RS2103XH; Device: RS2103XH; LCSC Part Name: 模拟开关RS2103XH; Supplier Part: C255472; Manufacturer Part: RS2103XH; Supplier Footprint: SOT-23-6; JLCPCB Part Class: Extended Part; Datasheet: https://atta.szlcsc.com/upload/public/pdf/source/20180801/C255472_556446098C084FD7A8E66BCC67A523BD.pdf; Supplier: LCSC; Convert to PCB: yes; Switch Circuit: -; Multiplexer/Demultiplexer Circuit: -; Number of Circuits: -; On Resistance (Max): -; Switch Voltage (Max): -; On Time (Max): -; Off Time (Max): -; Supply Voltage: -; Operating Temperature: -
footprint SOT-23-6_L2.9-W1.6-P0.95-LS2.8-BR
pins: 1 IN, 2 V+, 3 GND, 4 NC, 5 COM, 6 NO

## RS2257XC6
designator U??  (value not drawn)
模拟开关; Manufacturer: RUNIC(润石); Name: RS2103XH; Add into BOM: yes; Symbol: RS2103XH; Device: RS2103XH; LCSC Part Name: 模拟开关RS2103XH; Supplier Part: C255472; Manufacturer Part: RS2103XH; Supplier Footprint: SOT-23-6; JLCPCB Part Class: Extended Part; Datasheet: https://atta.szlcsc.com/upload/public/pdf/source/20180801/C255472_556446098C084FD7A8E66BCC67A523BD.pdf; Supplier: LCSC; Convert to PCB: yes; Switch Circuit: -; Multiplexer/Demultiplexer Circuit: -; Number of Circuits: -; On Resistance (Max): -; Switch Voltage (Max): -; On Time (Max): -; Off Time (Max): -; Supply Voltage: -; Operating Temperature: -
footprint SC-70-6_L2.2-W1.3-P0.65-LS2.1-BR
pins: 1 NO, 2 GND, 3 NC, 4 COM, 5 V+, 6 IN

## RS8552XM
designator U??
双路精密运放; Symbol: RS8552XM
footprint MSOP-8
part A pins: 5 +IN 2, 6 -IN 2, 7 OUT 2
part B pins: 1 OUT 1, 2 -IN 1, 3 +IN 1, 4 V-, 8 V+

## SAM8108
designator U?  (value not drawn)
Add into BOM: yes; Name: SAM8108; Symbol: SAM8108; Device: SAM8108; LCSC Part Name: SAM8108; Supplier Part: C9900019002; Manufacturer Part: SAM8108; Supplier Footprint: SOT23-6; JLCPCB Part Class: 扩展库; Datasheet: https://atta.szlcsc.comnull; Supplier: LCSC; Convert to PCB: yes
footprint SOT-23-6_L2.9-W1.6-P0.95-LS2.8-BR
pins: 1 GND, 2 VDD, 3 NC, 4 ONOFF, 5 NC, 6 OUT

## SGM706
designator U??  (value not drawn)
Manufacturer: ZLM(周励); Name: ZLM706SESA/T; Add into BOM: yes; Number of Voltages Monitored: 1; Output: 推挽式; Reset: 低有效; Reset Threshold Voltage: 2.93V; Symbol: ZLM706SESA/T; Device: ZLM706SESA/T; LCSC Part Name: ZLM706SESA/T; Supplier Part: C2917377; Manufacturer Part: ZLM706SESA/T; Supplier Footprint: SOP-8; JLCPCB Part Class: Extended Part; Datasheet: https://atta.szlcsc.com/upload/public/pdf/source/20211112/010CBC641B9E379E8BCDADECE2206E50.pdf; Supplier: LCSC; Convert to PCB: yes; Type: 简单复位/加电复位
footprint SOIC-8_L4.9-W3.9-P1.27-LS6.0-BL
pins: 1 MR#, 2 VCC, 3 GND, 4 PFI, 5 PFO#, 6 WDI, 7 RESET#, 8 WDO#

## SGM4553YN8G/TR
designator U??  (value not drawn)
Manufacturer: SGMICRO(圣邦微); Add into BOM: yes; Name: SGM4553YN8G/TR; Symbol: SGM4553YN8G/TR; Device: SGM4553YN8G/TR; LCSC Part Name: SGM4553YN8G/TR; Supplier Part: C92549; Manufacturer Part: SGM4553YN8G/TR; Supplier Footprint: SOT-23-8; JLCPCB Part Class: Extended Part; Datasheet: https://atta.szlcsc.com/upload/public/pdf/source/20190301/C92549_5FF01A85633E5614C74BCE4159BBDBA2.pdf; Supplier: LCSC; Convert to PCB: yes
footprint SOT-23-8_L3.0-W1.7-P0.65-LS2.8-BR
pins: 1 VCCB, 2 B1, 3 B2, 4 OE, 5 GND, 6 A2, 7 A1, 8 VCCA

## SHT20
designator ?  (value not drawn)
Designer: U?; Symbol: SHT20; Device: SHT20
footprint DFN-6_L3.0-W3.0-P0.95-TR-EP
pins: 1 SDA, 2 VSS, 3 NC, 4 NC, 5 VDD, 6 SCL, 7 ep

## SLM352
designator U??  (value not drawn)
Manufacturer: Slkor(萨科微); Add into BOM: yes; Input voltage type: DC; Output Type: 达林顿晶体管; Number of Outputs: 1; Forward Voltage: 1.24V; Reverse Voltage: 6V; Output Current: 150mA; Receiving End Voltage: 350V; Collector-Emitter Saturation Voltage (Vce(sat)@Ic,IF): 1.2V@100mA,20mA; Rise time: 91.5us@2mA,100Ω; Fall time: 21.4us@2mA,100Ω; Isolation Voltage(rms): 3.75kV; Name: SLM352; Symbol: SLM352; Device: SLM352; LCSC Part Name: DC输入 隔离电压(rms):3750V; Supplier Part: C2904411; Manufacturer Part: SLM352; Supplier Footprint: SOP-4-2.54mm; JLCPCB Part Class: Extended Part; Datasheet: https://atta.szlcsc.com/upload/public/pdf/source/20211008/7822717A55BB6AF0D069F376D3746135.pdf; Supplier: LCSC; Convert to PCB: yes; Operating Temperature: -55℃~+110℃
footprint SOP-4_L4.4-W3.6-P2.54-LS7.0-TL
pins: 1 AN, 2 CA, 3 EM, 4 CO

## SN74LV1T32DCKR
designator U?, comment SN74LVC1G14DBVR
正非门
footprint SOT23_5
pins: 1 A, 2 B, 3 GND, 4 Y, 5 VCC

## SN74LVC1G14DBVR
designator U?
反相器
footprint SOT23_5
pins: 1 NC, 2 A, 3 GND, 4 Y, 5 VCC

## TCA6424ARGJR
designator U??  (value not drawn)
Manufacturer: TI(德州仪器); Add into BOM: yes; Interface: I²C, SMBus; Number of I/O: 24; Interrupt Output: 有中断输出; Output Type: 推挽式; Output Source current: 10mA; Output Sink Current: 25mA; Clock Frequency: 400kHz; Supply Voltage: 1.65V~5.5V; Name: TCA6424ARGJR; Symbol: TCA6424ARGJR; Device: TCA6424ARGJR; LCSC Part Name: TCA6424ARGJR; Supplier Part: C80692; Manufacturer Part: TCA6424ARGJR; Supplier Footprint: QFN-32(5x5); JLCPCB Part Class: Extended Part; Supplier: LCSC; Convert to PCB: yes; Operating Temperature: -40℃~+85℃
footprint VQFN-32_L5.0-W5.0-P0.50-TL-EP
pins: 1 P00, 2 P01, 3 P02, 4 P03, 5 P04, 6 P05, 7 P06, 8 P07, 9 P10, 10 P11, 11 P12, 12 P13, 13 P14, 14 P15, 15 P16, 16 P17, 17 P20, 18 P21, 19 P22, 20 P23, 21 P24, 22 P25, 23 P26, 24 P27, 25 GND, 26 ADDR, 27 VCCP, 28 RESET#, 29 SCL, 30 SDA, 31 VCCI, 32 INT#, 33 EP

## TL431_C963380
designator U?
电压基准类型:并联;输出类型:可调;输入电压:37V;输出电压:2.5V~36V;输出电流:-;精度:-;温度系数:50ppm/℃;静态电流:-;最小阴极电流调节:1mA;噪声(0.1Hz-10Hz):-;噪声(10Hz-10kHz):-;动态阻抗:150mΩ;工作温度:-25℃~+85℃@(Topr);; Manufacturer: JSMSEMI(杰盛微); Name: TL431; Add into BOM: yes; Reference Type: 并联; Output Type: 可调; Input Voltage: 37V; Minimum Cathode Current for Regulation: 1mA; Dynamic Impedance: 150mΩ; Symbol: TL431_C963380; Device: TL431_C963380; LCSC Part Name: 并联 2.5V~36V; Supplier Part: C963380; Manufacturer Part: TL431; Supplier Footprint: SOT-23; JLCPCB Part Class: 扩展库; Datasheet: https://atta.szlcsc.com/upload/public/pdf/source/20211201/EE02BA953BE41909F74D12B934756247.pdf; Supplier: LCSC; Convert to PCB: yes; Output Voltage: 2.5V~36V; Output Current: -; Tolerance: -; Temperature Coefficient: 50ppm/℃; Supply Current: -; Noise - 1/10Hz to 10Hz: -; Noise - 10Hz to 10kHz: -; Operating Temperature: -25℃~+85℃@(Topr)
footprint SOT23_3 (SOT23, 3-Leads, Body 3.1x3.0mm (max), Pitch 0.95mm, IPC Medium Density)
pins: 1 K, 2 R, 3 A

## TLC555CDR
designator U??, comment 2.1MHz  (value not drawn)
Manufacturer: TI(德州仪器); Symbol: TLC555CDR; Add into BOM: yes; Supply Voltage: 2V~15V; Supply Current: 360uA; Device: TLC555CDR; LCSC Part Name: TLC555CDR; Supplier Part: C6986; Manufacturer Part: TLC555CDR; Supplier Footprint: SOIC-8; JLCPCB Part Class: Extended Part; Datasheet: https://www.ti.com/cn/lit/gpn/tlc555; Supplier: LCSC; Convert to PCB: yes; Value: 2.1MHz; Operating Temperature: 0℃~+70℃
footprint SOIC-8_L4.9-W3.9-P1.27-LS6.0-BL
pins: 1 GND, 2 TRIG, 3 OUT, 4 RESET, 5 CONT, 6 THRES, 7 DISCH, 8 VDD

## TLV2781IDBVR
designator *
单路运放
footprint SOT23_5
pins: 1 1OUT, 2 GND, 3 1IN+, 4 1IN-, 5 VCC

## TPD4E02B04QDQARQ1
designator D??
USB-ESD Protect TVS; Symbol: TPD4E02B04QDQARQ1
footprint USON-10_L2.5-W1.0-P0.50-BL
pins: 1 IO1, 2 IO2, 3 GND, 4 IO3, 5 IO4, 6 NC, 7 NC, 8 GND, 9 NC, 10 NC

## TPS3820-33DBVR
designator U??  (value not drawn)
Manufacturer: TI(德州仪器); Add into BOM: yes; Output Type: 推挽; Reset Active Level: 低电平有效; Number of Voltages Monitored: 1; Threshold Voltage: 2.93V; Reset Timeout: 15ms; Type of the power management chip: 简单复位/加电复位; Name: TPS3820-33DBVR; Symbol: TPS3820-33DBVR; Device: TPS3820-33DBVR; LCSC Part Name: TPS3820-33DBVR; Supplier Part: C130064; Manufacturer Part: TPS3820-33DBVR; Supplier Footprint: SOT-23-5; JLCPCB Part Class: Extended Part; Datasheet: https://atta.szlcsc.com/upload/public/pdf/source/20170918/C130064_1505703298986975148.pdf; Supplier: LCSC; Convert to PCB: yes; Operating Temperature: -40℃~+85℃@(TA)
footprint SOT23_5
pins: 1 RESET#, 2 GND, 3 MR#, 4 WDI, 5 VDD

## TVS_Double_SMD
designator D?, comment Value
双向TVS; Value: color?
footprint SOD_323
footprint SMBJ-CA_MFG (无极性SMB)
footprint SMA
footprint SMC_L7.1-W6.2-LS8.1-R-RD
pins: 1 A, 2 K

## ULN2803A_C181731
designator U??  (value not drawn)
8路达林顿晶体管阵列; Manufacturer: Mixic(中科芯亿达); Add into BOM: yes; ON-state input   voltage(VI(on)@Vce,Ic): 3V@2V,300mA; Collector Current(Ic): 500mA; Collector-emitter   saturation voltage (VCE(sat)@Ii,Ic): 1.25V@350mA; Output leakage current (Icex@Vce): 100uA@50V; Input current (Ii@Vi): 4mA@12V; Clamp Diode Forward Voltage (VF@IF): 1.6V@350mA; Input Capacitance (Ci): 15pF; Name: ULN2803A; Symbol: ULN2803A_C181731; Device: ULN2803A_C181731; LCSC Part Name: ULN2803A; Supplier Part: C181731; Manufacturer Part: ULN2803A; Supplier Footprint: SOIC-18-300mil; JLCPCB Part Class: Extended Part; Datasheet: https://atta.szlcsc.com/upload/public/pdf/source/20180207/C181731_15179898068571356493.pdf; Supplier: LCSC; Convert to PCB: yes; Clamp Diode Leakage Current (IR@VR): 100uA@50V; Operating Temperature: -40℃~+85℃
footprint SOIC-18_L11.6-W7.5-P1.27-LS10.3-BL
pins: 1 1B, 2 2B, 3 3B, 4 4B, 5 5B, 6 6B, 7 7B, 8 8B, 9 E, 10 COM, 11 8C, 12 7C, 13 6C, 14 5C, 15 4C, 16 3C, 17 2C, 18 1C

## UMH3N
designator Q??  (value not drawn)
Manufacturer: CJ(江苏长电/长晶); Add into BOM: yes; Collector-Emitter Breakdown Voltage (Vceo): 50V; Collector Current (Ic): 100mA; Power Dissipation (Pd): 150mW; Symbol: UMH3N; Device: UMH3N; LCSC Part Name: 耐压:50V 电流:100mA; Supplier Part: C62892; Manufacturer Part: UMH3N; Supplier Footprint: SC-70-6(SOT-363); JLCPCB Part Class: Extended Part; Datasheet: https://atta.szlcsc.com/upload/public/pdf/source/20151109/1457707575095.pdf; Supplier: LCSC; Convert to PCB: yes; Transistor Type: -
footprint SC-70-6_L2.2-W1.3-P0.65-LS2.1-BR
pins: 1 E, 2 B, 3 C, 4 E, 5 B, 6 C

## W25Q128JVSIM
designator U??  (value not drawn)
Manufacturer: WINBOND(华邦); Add into BOM: yes; Name: W25Q128JVSIM; Symbol: W25Q128JVSIM; Device: W25Q128JVSIM; LCSC Part Name: W25Q128JVSIM; Supplier Part: C2613930; Manufacturer Part: W25Q128JVSIM; Supplier Footprint: SOIC-8-208mil; JLCPCB Part Class: Extended Part; Datasheet: https://atta.szlcsc.com/upload/public/pdf/source/20210412/84C68860639CE6E99E4DBE9DB39E5296.pdf; Supplier: LCSC; Convert to PCB: yes
footprint SOIC-8_L5.3-W5.3-P1.27-LS8.0-BL
pins: 1 /CS, 2 DO(IO1), 3 /WP(IO2), 4 GND, 5 DI(IO0), 6 CLK, 7 /HOLD/RST(IO3), 8 VCC

## W25Q128JWPIQ
designator U?  (value not drawn)
Manufacturer: WINBOND(华邦); Add into BOM: yes; Name: W25Q128JWPIQ; Symbol: W25Q128JWPIQ; Device: W25Q128JWPIQ; LCSC Part Name: W25Q128JWPIQ; Supplier Part: C2689660; Manufacturer Part: W25Q128JWPIQ; Supplier Footprint: WSON-8-EP(5x6); JLCPCB Part Class: 扩展库; Datasheet: https://atta.szlcsc.com/upload/public/pdf/source/20210205/C2689660_0A4E5314E2A3675FAC38C43AF39F6008.pdf; Supplier: LCSC; Convert to PCB: yes
footprint WSON-8_L6.0-W5.0-P1.27-BL-EP
pins: 1 CS#, 2 DO(IO1), 3 WP#(IO2), 4 GND, 5 DI(IO0), 6 CLK, 7 HOLD# or RESET#(IO3), 8 VCC, 9 EP

## Zener-Diode
designator D??, comment ZMM12V  (value not drawn)
Manufacturer: YONGYUTAI(永裕泰); Symbol: ZMM12V_C2891753; Add into BOM: yes; Diode Configuration: 独立式; Zener Voltage (Nom): 12V; Zener Voltage (Range): 11.4V~12.7V; Tolerance: ±5%; Power Dissipation: 500mW; Zener Impedance (Zzt): 20Ω; Name: ZMM12V; Device: ZMM12V; LCSC Part Name: 12V ±5% 500mW; Supplier Part: C2891753; Manufacturer Part: ZMM12V; Supplier Footprint: LL-34; JLCPCB Part Class: Extended Part; Datasheet: https://atta.szlcsc.com/upload/public/pdf/source/20210901/1E62BEB6ADBB84BC625F53DAC2865793.pdf; Supplier: LCSC; Convert to PCB: yes
footprint LL-34_L3.5-W1.5-R-RD
pins: 1 A, 2 K

## ZLM706SESA/T
designator U??  (value not drawn)
Manufacturer: ZLM(周励); Add into BOM: yes; Number of Voltages Monitored: 1; Output: 推挽式; Reset: 低有效; Reset Threshold Voltage: 2.93V; Name: ZLM706SESA/T; Symbol: ZLM706SESA/T; Device: ZLM706SESA/T; LCSC Part Name: ZLM706SESA/T; Supplier Part: C2917377; Manufacturer Part: ZLM706SESA/T; Supplier Footprint: SOP-8; JLCPCB Part Class: Extended Part; Datasheet: https://atta.szlcsc.com/upload/public/pdf/source/20211112/010CBC641B9E379E8BCDADECE2206E50.pdf; Supplier: LCSC; Convert to PCB: yes; Type: 简单复位/加电复位
pins: 1 MR#, 2 VCC, 3 GND, 4 PFI, 5 PFO#, 6 WDI, 7 RESET#, 8 WDO#